# EAGLE library part POLOLU_DRV8834 (library pololu)
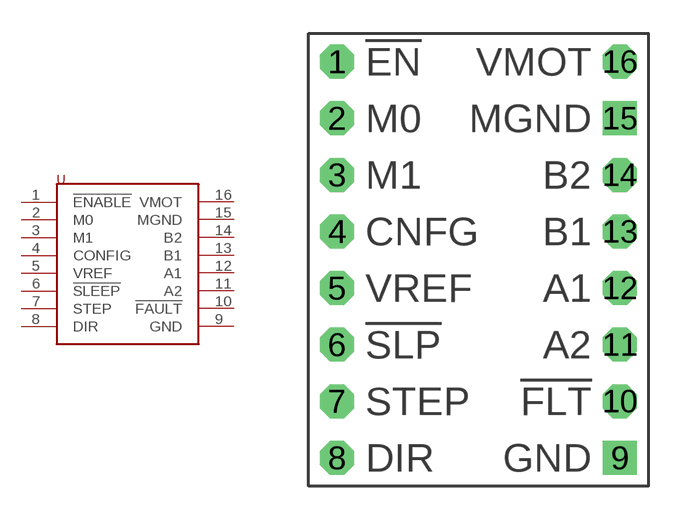
[diagram p1: symbol with the pads of POLOLU_DRV8834; footprint POLOLU_DRV8834]

Designator prefix -

## POLOLU_DRV8834  [POLOLU_DRV8834]
1  !ENABLE
2  M0
3  M1
4  CONFIG
5  VREF
6  !SLEEP
7  STEP
8  DIR
9  GND  pwr
10  !FAULT
11  A2
12  A1
13  B1
14  B2
15  MGND  pwr
16  VMOT  pwr

## Footprint POLOLU_DRV8834 (pad centres in mm)
drill 1.016 octagon: 1 1.27,-1.27; 2 1.27,-3.81; 3 1.27,-6.35; 4 1.27,-8.89; 5 1.27,-11.43; 6 1.27,-13.97; 7 1.27,-16.51; 8 1.27,-19.05; 10 13.97,-16.51; 11 13.97,-13.97; 12 13.97,-11.43; 13 13.97,-8.89; 14 13.97,-6.35; 16 13.97,-1.27
drill 1.016 square: 9 13.97,-19.05; 15 13.97,-3.81